# Altium schematic symbol library EVP-ASAC1A.SchLib: 1 symbol
Pins are listed as number, name and electrical type; pins without a type are passive.

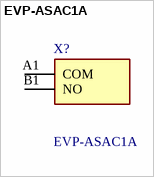
[diagram p0: symbol EVP-ASAC1A]

## EVP-ASAC1A
designator X?
Tactile Switches Swtch Lite Touch SMD 5mm ht J-bent 1.6N; Manufacturer_Name: Panasonic; Geometry.Height: 5.2mm; Mouser Part Number: 667-EVP-ASAC1A; Mouser Price/Stock: https://www.mouser.co.uk/ProductDetail/Panasonic/EVP-ASAC1A?qs=aeOb9a4xWfmZSZe%2FBR5y%252BA%3D%3D; Manufacturer_Part_Number: EVP-ASAC1A; Datasheet Link: https://www3.panasonic.biz/ac/cdn/e/control/switch/light-touch/catalog/sw_lt_eng_6s_long_2t.pdf
footprint EVPASAC1A
pins: A1 COM, B1 NO